# Altium footprint library PCB - CONNECTOR - RF - MOLEX SD-73251-562.PCBLIB: 1 footprints
Each footprint in its own frame and in the unit in brackets; x right, y up, seen from the top. Pads: shape width x height; smd on the part's side, far side on the other; paste and mask are expansions set on the pad; w line width, h text height; cw(c..) or ccw(c..) is an arc to the next point about the centre after c.
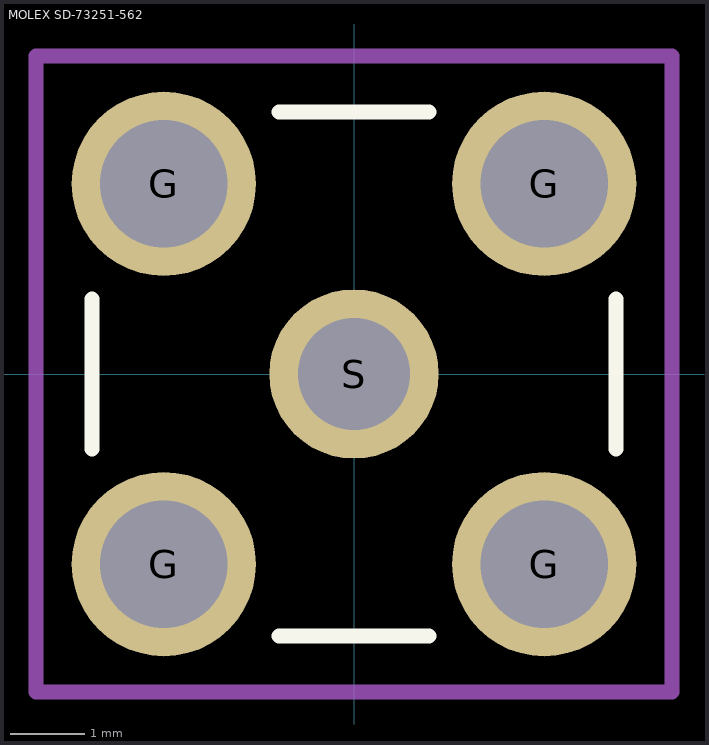
[diagram p0: the footprint, top view; thin cyan lines are the x and y axes]

## MOLEX SD-73251-562 [mm]
pads (5):
  round 2.462 hole 1.7: G(-2.54,-2.54) G(-2.54,2.54) G(2.54,-2.54) G(2.54,2.54)
  round 2.262 hole 1.5: S(0,0)
Top Overlay:
  lines w0.2: -3.5,-1 -3.5,1 ; -1,-3.5 1,-3.5 ; -1,3.5 1,3.5 ; 3.5,-1 3.5,1
Mechanical 15:
  lines w0.2: -1,0 1,0 ; 0,-1 0,1 ; -4.25,-4.25 4.25,-4.25 4.25,4.25 -4.25,4.25 -4.25,-4.25
3D body "MOLEX SD-73251-562.stp": height 14.24, standoff -3.84, extent -3.5,-3.5 3.5,3.5